# Altium schematic symbol library R_4up_Array.Schlib: 1 symbol
Pins are listed as number, name and electrical type; pins without a type are passive.

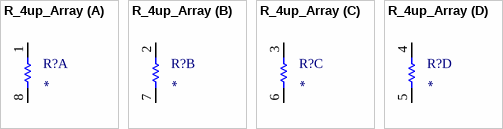
[diagram p0: symbol R_4up_Array]

## R_4up_Array
designator R?
part A pins: 1, 8
part B pins: 2, 7
part C pins: 3, 6
part D pins: 4, 5
1 alternate drawing of the same symbol